# Altium schematic symbol library converter.SchLib: 61 symbols (part 1 of 3)
Pins are listed as number, name and electrical type; pins without a type are passive.

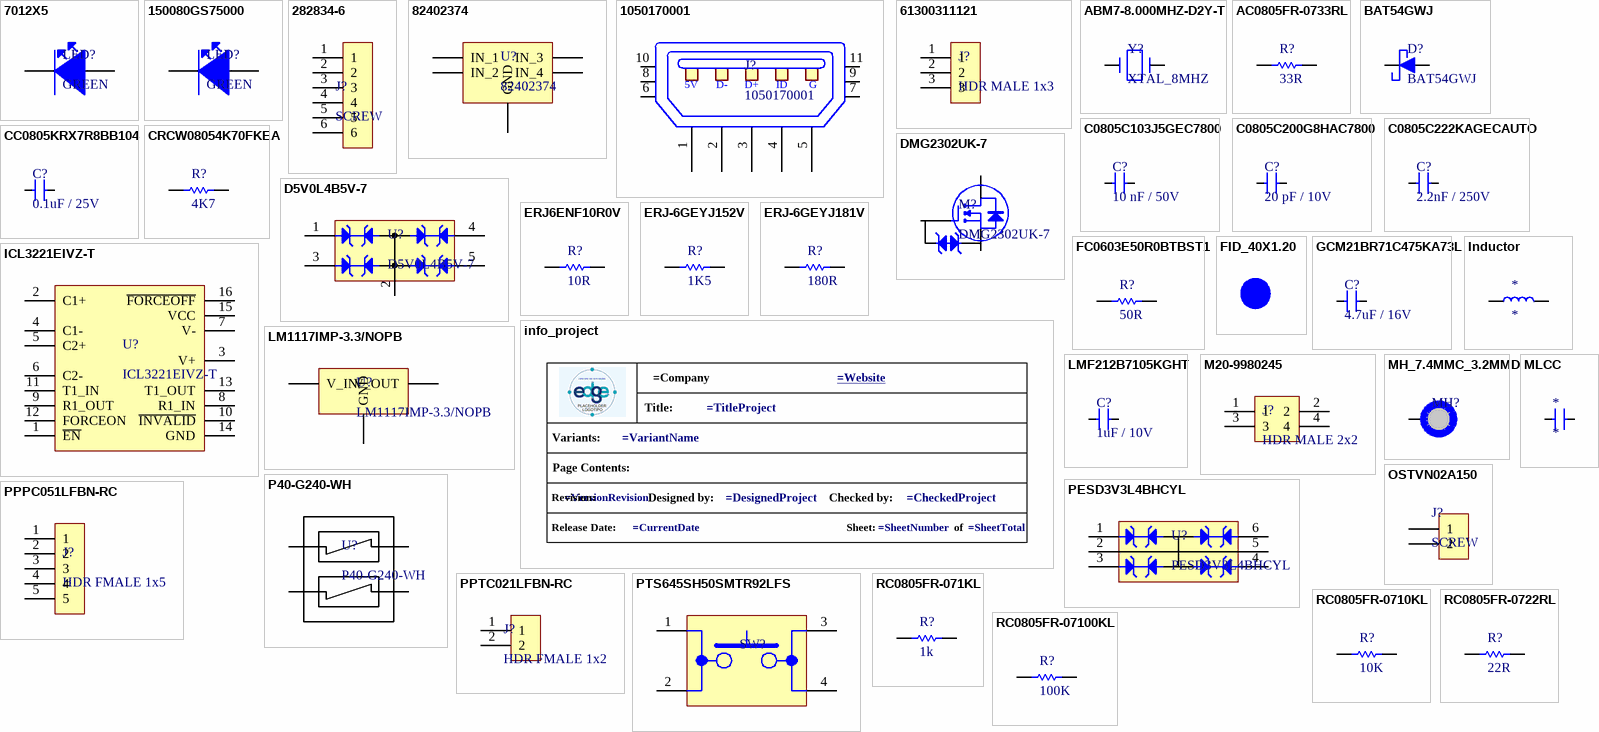
[diagram p0: symbols 7012X5 to RC0805FR-07100KL]

## 7012X5
designator LED?, comment GREEN
SMD LED GREEN 2.1V 0805 20mA; Manufacturer: VCC CHML; Manufacturer Part Number: 7012X5; Lens Color: Clear; Lens Style: Diffused,Rectangular; Luminous Intensity: 6.4mcd; Viewing Angle: 120°; Wavelength: 560nm; Power Rating: 62.5mW; Number of Elements: 1; Reverse Voltage (DC): 4V; Supplier 1: Digi-Key; RoHS: Yes; Category: LEDs; Stock 1: 153089; Pricing 1: 1=0,60000, 10=0,39600, 100=0,26210, 1000=0,20235, 2000=0,18285 (USD); Mount: Surface Mount; Case/Package: 0805; Number of Pins: 2; Color: Green; Case Code (Metric): 2012; Case Code (Imperial): 0805; Min Operating Temperature: -40°C; Max Operating Temperature: 85°C; Packaging: Tape and Reel; Forward Voltage: 2.1V; Package Quantity: 1; Illumination Color: Green; Forward Current: 20mA; Test Current: 20mA; Power Dissipation: 62.5mW; Reverse Voltage: 4V; Series: BrightChips™; Number of LEDs: 1; Length: 2mm; Width: 1.25mm; Height: 1mm; Depth: 1.25mm; Lead Free: Lead Free; RoHS Compliant: Yes; REACH SVHC: Unknown; ComponentLink1URL: https://datasheet.ciiva.com/2114/1-26-2114592.pdf?src-supplier=Digi-Key; ComponentLink1Description: https://datasheet.ciiva.com/2114/1-26-2114592.pdf?src-supplier=Digi-Key; ComponentLink2URL: https://datasheet.ciiva.com/7639/726505-7639302.pdf?src-supplier=Element14; ComponentLink2Description: https://datasheet.ciiva.com/7639/726505-7639302.pdf?src-supplier=Element14; ComponentLink3URL: https://datasheet.ciiva.com/46391/726505-46391115.pdf?src-supplier=Element14; ComponentLink3Description: https://datasheet.ciiva.com/46391/726505-46391115.pdf?src-supplier=Element14; ComponentLink4URL: https://datasheet.ciiva.com/16214/7012xseriesbrightchipshighbrightnesssmtleds0805packagesize-16214285.pdf?src-supplier=Future+Electronics; ComponentLink4Description: https://datasheet.ciiva.com/16214/7012xseriesbrightchipshighbrightnesssmtleds0805packagesize-16214285.pdf?src-supplier=Future+Electronics; Supplier Part Number 1: L61105CT-ND
footprint LED_0805
pins: 1 Cathode, 2 Anode

## 150080GS75000
designator LED?, comment GREEN
SMD LED GREEN 3.2V 0805 20mA; Manufacturer: Wurth Electronics; Manufacturer Part Number: 150080GS75000; Viewing Angle: 140°; Lens Style: Clear,Rectangular; Luminous Intensity: 450mcd; Wavelength: 520nm; Forward Current: 30mA; Supplier 1: Digi-Key; RoHS: Yes; Category: LEDs; Stock 1: 102669; Pricing 1: 1=0,18000, 50=0,16500, 100=0,14200, 500=0,12300 (USD); Mount: Surface Mount; Case/Package: 0805; Color: Green; Case Code (Metric): 2012; Case Code (Imperial): 0805; Min Operating Temperature: -40°C; Max Operating Temperature: 85°C; Package Quantity: 4000; Forward Voltage: 3.2V; Packaging: Cut Tape; Dominant Wavelength: 520nm; Test Current: 20mA; Length: 2mm; Width: 1.25mm; Height: 0.7mm; REACH SVHC: Unknown; RoHS Compliant: Yes; ComponentLink1URL: https://datasheet.ciiva.com/29563/150080gs75000-29563008.pdf?src-supplier=Digi-Key; ComponentLink1Description: https://datasheet.ciiva.com/29563/150080gs75000-29563008.pdf?src-supplier=Digi-Key; ComponentLink2URL: https://datasheet.ciiva.com/29279/759434-da-01-en-chipled-0805-w-kl-gruen-150080gs75000-29279039.pdf?src-supplier=Conrad; ComponentLink2Description: https://datasheet.ciiva.com/29279/759434-da-01-en-chipled-0805-w-kl-gruen-150080gs75000-29279039.pdf?src-supplier=Conrad; Supplier Part Number 1: 732-4983-1-ND
footprint LED_0805
pins: 1 Cathode, 2 Anode

## 282834-6
designator J?, comment SCREW
TERM BLK 6P SIDE 2.54MM; Manufacturer: TE Connectivity; Manufacturer Part Number: 282834-6; Plating: Brass,Steel; Number of Contacts: 6; Current Rating: 10A; Voltage Rating: 150V; Number of Levels: 1; Connector Type: Receptacle; Closed End: No (Without); Screwless Terminal Block: Yes (With); Gender: Female; Wire Gauge (Max): 30AWG; Wire Gauge (Min): 16AWG; Thread Size: M1.6; Tail Length: 3.4mm; Approvals: UL; Supplier 1: Digi-Key; RoHS: Yes; Category: Terminal Blocks; Stock 1: 7269; Pricing 1: 1=5,33000, 10=4,06500, 25=3,80720, 50=3,38400, 100=3,31050, 250=3,05300, 500=2,75874, 1000=2,45221 (USD); Mount: Through Hole; Color: Green; Contact Plating: Tin; Contact Material: Brass; Housing Color: Green; Housing Material: Polyamide; Material: Nylon; Min Operating Temperature: -40°C; Max Operating Temperature: 105°C; Termination: Solder; Orientation: Straight; Package Quantity: 100; Packaging: Box; Number of Rows: 1; Series: Buchanan; Number of Positions Per Level: 6; Current: 10A; Voltage: 150V; Number of Positions: 6; Number of Circuits: 6; Max Current Rating: 10A; Interlock: No (Without); Screw Flange: No (Without); Side Stackable: Yes (With); Max Supply Voltage (AC): 150V; Number of Poles: 6; Max Voltage Rating (AC): 150V; Length: 15.7mm; Width: 6.5mm; Pitch: 2.54mm; Depth: 6.5mm; Wire/Cable Gauge: 30AWG; Radiation Hardening: No; Flammability Rating: UL94 V-0; ELV: Compliant; REACH SVHC: Unknown; Lead Free: Lead Free; ComponentLink1URL: https://datasheet.ciiva.com/823/eng-cd-282834-c1-823488.pdf?src-supplier=Digi-Key; ComponentLink1Description: https://datasheet.ciiva.com/823/eng-cd-282834-c1-823488.pdf?src-supplier=Digi-Key; ComponentLink2URL: https://datasheet.ciiva.com/16308/282834-6-16308413.pdf?src-supplier=Future+Electronics; ComponentLink2Description: https://datasheet.ciiva.com/16308/282834-6-16308413.pdf?src-supplier=Future+Electronics; ComponentLink3URL: https://datasheet.ciiva.com/25618/0900766b810c7187-25618156.pdf?src-supplier=RSComponents; ComponentLink3Description: https://datasheet.ciiva.com/25618/0900766b810c7187-25618156.pdf?src-supplier=RSComponents; ComponentLink4URL: https://datasheet.ciiva.com/9370/eng-cs-1308389-eurostyle-terminal-blocks-0607-9370422.pdf?src-supplier=Avnet; ComponentLink4Description: https://datasheet.ciiva.com/9370/eng-cs-1308389-eurostyle-terminal-blocks-0607-9370422.pdf?src-supplier=Avnet; ComponentLink5URL: https://datasheet.ciiva.com/16676/eng-cs-1308389-eurostyle-terminal-blocks-0607-16676062.pdf?src-supplier=Avnet+Europe; ComponentLink5Description: https://datasheet.ciiva.com/16676/eng-cs-1308389-eurostyle-terminal-blocks-0607-16676062.pdf?src-supplier=Avnet+Europe; ComponentLink6URL: https://datasheet.ciiva.com/30097/eng-cs-1308389-eurostyle-terminal-blocks-0607-30097352.pdf?src-supplier=Onlinecomponents.com; ComponentLink6Description: https://datasheet.ciiva.com/30097/eng-cs-1308389-eurostyle-terminal-blocks-0607-30097352.pdf?src-supplier=Onlinecomponents.com; Supplier Part Number 1: A98337-ND
footprint SCREW-6P
pins: 1, 2, 3, 4, 5, 6

## 82402374
designator U?
DIODE TVS ESD VRW - 5V / VB - 6V / VC - 6.8V; Manufacturer: Wurth Electronics; Direction: Unidirectional; Element Configuration: Common Anode; Capacitance: 13pF; Number of Unidirectional Channels: 4; Power Line Protection: No; Max Reverse Leakage Current: 2.5A; ESD Protection: Yes; Test Current: 1mA; Max Surge Current: 6A; Diode Type: ZENER; Supplier 1: Digi-Key; Manufacturer Part Number: 82402374; RoHS: Yes; Category: Diodes; Stock 1: 2064; Pricing 1: 1=0,81000, 10=0,77300, 50=0,72100, 100=0,67000, 500=0,59200 (USD); Mount: Surface Mount; Case/Package: SC; Number of Pins: 5; Min Operating Temperature: -55°C; Max Operating Temperature: 85°C; Package Quantity: 3000; Packaging: Tape and Reel; Polarity: Unidirectional; Reverse Standoff Voltage: 5V; Min Breakdown Voltage: 6V; Clamping Voltage: 6.8V; Max Breakdown Voltage: 6V; Breakdown Voltage: 6V; Termination: SMD/SMT; Number of Channels: 4; Working Voltage: 5V; Peak Pulse Current: 6A; Resistor Type: Zener; Series: WE-TVS; Length: 2mm; Width: 2.2mm; Height: 1mm; REACH SVHC: No SVHC; RoHS Compliant: Yes; ComponentLink1URL: https://datasheet.ciiva.com/1280/82402374-1280754.pdf?src-supplier=Farnell; ComponentLink1Description: https://datasheet.ciiva.com/1280/82402374-1280754.pdf?src-supplier=Farnell; ComponentLink2URL: https://datasheet.ciiva.com/15063/82402374-15063940.pdf?src-supplier=Digi-Key; ComponentLink2Description: https://datasheet.ciiva.com/15063/82402374-15063940.pdf?src-supplier=Digi-Key; ComponentLink3URL: https://datasheet.ciiva.com/25624/0900766b8107ea50-25624773.pdf?src-supplier=RSComponents; ComponentLink3Description: https://datasheet.ciiva.com/25624/0900766b8107ea50-25624773.pdf?src-supplier=RSComponents; ComponentLink4URL: https://datasheet.ciiva.com/15063/82402374-15063941.pdf?src-supplier=Digi-Key; ComponentLink4Description: https://datasheet.ciiva.com/15063/82402374-15063941.pdf?src-supplier=Digi-Key; ComponentLink5URL: https://datasheet.ciiva.com/15063/82402374-15063942.pdf?src-supplier=Digi-Key; ComponentLink5Description: https://datasheet.ciiva.com/15063/82402374-15063942.pdf?src-supplier=Digi-Key; ComponentLink6URL: https://datasheet.ciiva.com/26308/82402374-eng-tds-26308054.pdf?src-supplier=Distrelec; ComponentLink6Description: https://datasheet.ciiva.com/26308/82402374-eng-tds-26308054.pdf?src-supplier=Distrelec; ComponentLink7URL: https://datasheet.ciiva.com/48698/001086807-da-01-ml-tvs-diode-array-we-tvs-82402374-de-en-48698251.pdf?src-supplier=Conrad; ComponentLink7Description: https://datasheet.ciiva.com/48698/001086807-da-01-ml-tvs-diode-array-we-tvs-82402374-de-en-48698251.pdf?src-supplier=Conrad; Supplier Part Number 1: 732-4478-1-ND
footprint 82402374
pins: 1 IN_1, 2 GND, 3 IN_3, 4 IN_2, 5 IN_4

## 1050170001
designator J?
CONN USB RECPT MICRO B 2.0; Manufacturer: Molex; Number of Terminals/Pins: 5; Gender: Receptacle; Connector Type: USB,Receptacle; Number of Ports: 1; Max Voltage Rating (AC): 30V; Current Rating: 1.8A; USB Standard: USB 2.0; Mating Cycles: 10000; Shielding: Shielded; Pitch: 0.65mm; Supplier 1: Digi-Key; Manufacturer Part Number: 1050170001; RoHS: Yes; Category: Connectors; Stock 1: 92634; Pricing 1: 1=0,83000, 10=0,68600, 100=0,57140, 1000=0,45712 (USD); Mount: Surface Mount,Through Hole,Horizontal; Contact Plating: Gold; Contact Material: Copper Alloy,Copper; Housing Material: Polymer; Insulation Color: Black; Min Operating Temperature: -30°C; Max Operating Temperature: 85°C; Packaging: Tape and Reel; Package Quantity: 2000; Termination: Solder; Number of Contacts: 5; Orientation: Right Angle; Features: Shielded; Series: 105017; Voltage Rating (AC): 30V; Voltage Rating: 30V; Number of Positions: 5; Number of Circuits: 5; Length: 8.2mm; Depth: 7.5mm; Radiation Hardening: No; REACH SVHC: Unknown; Halogen Free: Low Halogen; Flammability Rating: UL94 V-0; RoHS Compliant: Yes; ComponentLink1URL: https://datasheet.ciiva.com/3094/1050170001-io-connectors-3094416.pdf?src-supplier=Avnet; ComponentLink1Description: https://datasheet.ciiva.com/3094/1050170001-io-connectors-3094416.pdf?src-supplier=Avnet; ComponentLink2URL: https://datasheet.ciiva.com/30165/235271050170001-io-nectors-30165183.pdf?src-supplier=Onlinecomponents.com; ComponentLink2Description: https://datasheet.ciiva.com/30165/235271050170001-io-nectors-30165183.pdf?src-supplier=Onlinecomponents.com; ComponentLink3URL: https://datasheet.ciiva.com/5742/1598502-5742508.pdf?src-supplier=Farnell; ComponentLink3Description: https://datasheet.ciiva.com/5742/1598502-5742508.pdf?src-supplier=Farnell; ComponentLink4URL: https://datasheet.ciiva.com/8015/1631959-8015288.pdf?src-supplier=Element14; ComponentLink4Description: https://datasheet.ciiva.com/8015/1631959-8015288.pdf?src-supplier=Element14; ComponentLink5URL: https://datasheet.ciiva.com/22654/1688140-22654924.pdf?src-supplier=Element14; ComponentLink5Description: https://datasheet.ciiva.com/22654/1688140-22654924.pdf?src-supplier=Element14; ComponentLink6URL: https://datasheet.ciiva.com/4598/1050170001-io-connectors-152207-4598759.pdf?src-supplier=Mouser; ComponentLink6Description: https://datasheet.ciiva.com/4598/1050170001-io-connectors-152207-4598759.pdf?src-supplier=Mouser; ComponentLink7URL: https://datasheet.ciiva.com/851/1050170001-sd-851276.pdf?src-supplier=Digi-Key; ComponentLink7Description: https://datasheet.ciiva.com/851/1050170001-sd-851276.pdf?src-supplier=Digi-Key; ComponentLink8URL: https://datasheet.ciiva.com/851/1050170001-sd-851277.pdf?src-supplier=Digi-Key; ComponentLink8Description: https://datasheet.ciiva.com/851/1050170001-sd-851277.pdf?src-supplier=Digi-Key; ComponentLink9URL: https://datasheet.ciiva.com/16668/1050170001-io-connectors-16668598.pdf?src-supplier=Avnet+Europe; ComponentLink9Description: https://datasheet.ciiva.com/16668/1050170001-io-connectors-16668598.pdf?src-supplier=Avnet+Europe; ComponentLink10URL: https://datasheet.ciiva.com/851/1050170001-sd-851278.pdf?src-supplier=Digi-Key; ComponentLink10Description: https://datasheet.ciiva.com/851/1050170001-sd-851278.pdf?src-supplier=Digi-Key; Supplier Part Number 1: WM1399CT-ND
footprint 1050170001
pins: 1 0, 2 1, 3 2, 4 3, 5 4, 6 5, 7, 8, 9, 10, 11
text: 5V; D-; D+; ID; G

## 61300311121
designator J?, comment HDR MALE 1x3
HDR MALE 1x3 100mil; Manufacturer: Wurth Electronics; Manufacturer Part Number: 61300311121; Number of Positions: 3; Connector Type: Male Pin; Pitch: 0.1inch; Supplier 1: Digi-Key; RoHS: Yes; Category: Connectors; Stock 1: 73782; Pricing 1: 1=0,13000, 10=0,10600, 25=0,08800, 50=0,07400, 100=0,06700, 1000=0,06240 (USD); Mount: Through Hole; Contact Plating: Gold; Contact Material: Copper; Color: Black; Number of Rows: 1; Packaging: Bulk; Termination: Solder; Number of Contacts: 3; Gender: Male; Contact Mating Length: 0.236inch; REACH SVHC: Unknown; Lead Free: Lead Free; RoHS Compliant: Yes; ComponentLink1URL: https://katalog.we-online.de/em/datasheet/6130xx11121.pdf?src-supplier=Digi-Key; ComponentLink1Description: https://katalog.we-online.de/em/datasheet/6130xx11121.pdf?src-supplier=Digi-Key; ComponentLink2URL: http://www.farnell.com/cad/1737268.pdf?src-supplier=Element14; ComponentLink2Description: http://www.farnell.com/cad/1737268.pdf?src-supplier=Element14; Supplier Part Number 1: 732-5316-ND
footprint HDR MALE 1x3
pins: 1, 2, 3

## ABM7-8.000MHZ-D2Y-T
designator Y?, comment XTAL_8MHZ
ABM7- 8MHZ - SMD - 6mm x 3.5mm - 30 ppm - 18 pF - 20 ppm; Manufacturer: Abracon; Manufacturer Part Number: ABM7-8.000MHZ-D2Y-T; Frequency Tolerance: 20ppm; Load Capacitance: 18pF; ESR (Equivalent Series Resistance): 100R; Frequency Stability: 30ppm; Series Resistance: 80R; .SCHChecked: José Gomes; Supplier 1: Digi-Key; RoHS: Yes; Category: Crystals; Stock 1: 54566; Pricing 1: 1=0.87000, 10=0.77300, 50=0.72240, 100=0.63840, 500=0.60480 (USD); Mount: Surface Mount; Case/Package: CSMD; Number of Pins: 2; Min Operating Temperature: -40°C; Max Operating Temperature: 85°C; Frequency: 8MHz; Package Quantity: 1000; Packaging: Tape and Reel; Tolerance: 20ppm; Termination: SMD/SMT; Resistor Type: Ceramic; Series: ABM7; Operating Frequency: 8 MHz; Length: 6mm; Width: 0.138inch; Height: 0.055inch; Depth: 3.5mm; Radiation Hardening: No; REACH SVHC: Yes; Lead Free: Lead Free; ComponentLink1URL: https://datasheet.ciiva.com/15116/getdatasheetpartid-722403-15116844.pdf?src-supplier=Verical; ComponentLink1Description: https://datasheet.ciiva.com/15116/getdatasheetpartid-722403-15116844.pdf?src-supplier=Verical; ComponentLink2URL: https://datasheet.ciiva.com/1357/1718755-1357277.pdf?src-supplier=Element14; ComponentLink2Description: https://datasheet.ciiva.com/1357/1718755-1357277.pdf?src-supplier=Element14; ComponentLink3URL: https://datasheet.ciiva.com/29998/abm7-29998171.pdf?src-supplier=Avnet; ComponentLink3Description: https://datasheet.ciiva.com/29998/abm7-29998171.pdf?src-supplier=Avnet; ComponentLink4URL: https://datasheet.ciiva.com/4944/abm7-19096-4944987.pdf?src-supplier=Mouser; ComponentLink4Description: https://datasheet.ciiva.com/4944/abm7-19096-4944987.pdf?src-supplier=Mouser; ComponentLink5URL: https://datasheet.ciiva.com/16416/abm7-16416924.pdf?src-supplier=Future+Electronics; ComponentLink5Description: https://datasheet.ciiva.com/16416/abm7-16416924.pdf?src-supplier=Future+Electronics; Supplier Part Number 1: 535-9831-1-ND; .PCBChecked: José Gomes
footprint ABM7-8.000MHZ-D2Y-T
pins: 1, 2

## AC0805FR-0733RL
designator R?, comment 33R
RES - 33R 1/8W 0805 1%; Manufacturer: Yageo; Manufacturer Part Number: AC0805FR-0733RL; Power Rating: 125mW; Voltage Rating: 150V; Temperature Coefficient: 100ppm/°C; Supplier 1: Digi-Key; RoHS: Yes; Category: Chip SMD Resistors; Stock 1: 4670; Pricing 1: 1=0.10000, 10=0.05000, 100=0.02040, 1000=0.00917, 2500=0.00796 (USD); Case/Package: 0805; Case Code (Imperial): 0805; Case Code (Metric): 2012; Min Operating Temperature: -55°C; Max Operating Temperature: 155°C; Packaging: Tape and Reel; Resistance: 33R; Tolerance: 1%; Resistor Type: Thick Film; Number of Terminations: 2; Termination: SMD/SMT; Max Power Dissipation: 125mW; Features: Moisture Resistant,Automotive AEC-Q200; Series: AC; Length: 0.079inch; Width: 0.049inch; Height: 0.024inch; RoHS Compliant: Yes; ComponentLink1URL: http://www.mouser.com/ds/2/447/yageodocoutput-1111992.pdf?src-supplier=Mouser; ComponentLink1Description: http://www.mouser.com/ds/2/447/yageodocoutput-1111992.pdf?src-supplier=Mouser; ComponentLink2URL: http://www.yageo.com/NewPortal/yageodocoutput?fileName=/pdf/R-Chip/PYu-AC_51_RoHS_L_6.pdf&src-supplier=Digi-Key; ComponentLink2Description: http://www.yageo.com/NewPortal/yageodocoutput?fileName=/pdf/R-Chip/PYu-AC_51_RoHS_L_6.pdf&src-supplier=Digi-Key; ComponentLink3URL: http://www.yageo.com/NewPortal/yageodocoutput?fileName=/pdf/R-Chip/PYu-AC_51_RoHS_L_5.pdf&src-supplier=Digi-Key; ComponentLink3Description: http://www.yageo.com/NewPortal/yageodocoutput?fileName=/pdf/R-Chip/PYu-AC_51_RoHS_L_5.pdf&src-supplier=Digi-Key; Supplier Part Number 1: YAG5367CT-ND
footprint R0805
pins: 1, 2

## BAT54GWJ
designator D?
DIODE SCHOTTKY 30 V - 200 mA SOD123; Manufacturer: Nexperia USA; Max Reverse Voltage (DC): 30V; Average Rectified Current: 200mA; Supplier 1: Newark; Manufacturer Part Number: BAT54GWJ; RoHS: No; Mount: Surface Mount; Min Operating Temperature: -40°C; Max Operating Temperature: 85°C; Packaging: Cut Tape; ComponentLink1URL: https://assets.nexperia.com/documents/data-sheet/BAT54GW.pdf?src-supplier=Digi-Key; ComponentLink1Description: https://assets.nexperia.com/documents/data-sheet/BAT54GW.pdf?src-supplier=Digi-Key; Supplier Part Number 1: 73AH9681
footprint SOD123
pins: 1, 2

## C0805C103J5GEC7800
designator C?, comment 10 nF / 50V
MLCC - 10nF 50V 0805 C0G +/- 5%; Manufacturer: KEMET; Manufacturer Part Number: C0805C103J5GEC7800; Supplier 1: Digi-Key; RoHS: No; Stock 1: 1119; Pricing 1: 1=0.31000, 10=0.21500, 50=0.14300, 100=0.12160, 500=0.08584, 1000=0.07511 (USD); Supplier Part Number 1: 399-C0805C103J5GEC7800CT-ND
footprint C0805
pins: 1, 2

## C0805C200G8HAC7800
designator C?, comment 20 pF / 10V
MLCC - 20pF 10V 0805 X8R +/- 2%; Manufacturer: KEMET; Manufacturer Part Number: C0805C200G8HAC7800; Supplier 1: Digi-Key; RoHS: No; Stock 1: 11310; Pricing 1: 1=0,18000, 10=0,12800, 50=0,07240, 100=0,06000, 500=0,04208, 1000=0,03484 (USD); Supplier Part Number 1: 399-C0805C200G8HAC7800CT-ND
footprint C0805
pins: 1, 2

## C0805C222KAGECAUTO
designator C?, comment 2.2nF / 250V
MLCC - 2.2 nF 250V 0805  C0G +/- 10%; Manufacturer: KEMET; Manufacturer Part Number: C0805C222KAGECAUTO; Supplier 1: Digi-Key; RoHS: Yes; Category: Ceramic Capacitors; Stock 1: 14146; Pricing 1: 1=0,26000, 10=0,17800, 50=0,11880, 100=0,10100, 500=0,07128, 1000=0,06237 (USD); RoHS Compliant: Yes; ComponentLink1URL: https://api.kemet.com/component-edge/download/datasheet/C0805C222KAGECAUTO.pdf?src-supplier=Digi-Key; ComponentLink1Description: https://api.kemet.com/component-edge/download/datasheet/C0805C222KAGECAUTO.pdf?src-supplier=Digi-Key; Supplier Part Number 1: 399-17905-1-ND
footprint C0805
pins: 1, 2

## CC0805KRX7R8BB104
designator C?, comment 0.1uF / 25V
MLCC - 0.1uF 25V 0805 X7R +/- 10%; Manufacturer: Yageo; Manufacturer Part Number: CC0805KRX7R8BB104; Material: Ceramic; Capacitance: 100nF; Insulation Resistance: 100GR; Supplier 1: Digi-Key; RoHS: Yes; Category: Ceramic Capacitors; Stock 1: 331734; Pricing 1: 1=0,12000, 10=0,08800, 50=0,04980, 100=0,04130, 500=0,02894, 1000=0,02396 (USD); Mount: Surface Mount; Case/Package: 0805; Number of Pins: 2; Case Code (Metric): 2012; Case Code (Imperial): 0805; Min Operating Temperature: -55°C; Max Operating Temperature: 125°C; Tolerance: 10%; Dielectric: X7R; Series: CC; Package Quantity: 1; Voltage Rating: 25V; Packaging: Tape and Reel; Voltage Rating (DC): 25V; Termination: SMD/SMT; Resistor Type: Ceramic; Length: 2mm; Width: 0.049inch; Height: 0.85mm; Depth: 1.25mm; Thickness: 0.033inch; Radiation Hardening: No; RoHS Compliant: Yes; REACH SVHC: No SVHC; Lead Free: Lead Free; Halogen Free: Halogen Free; ComponentLink1URL: https://datasheet.ciiva.com/145/mlccorderingcode-145007.pdf?src-supplier=Digi-Key; ComponentLink1Description: https://datasheet.ciiva.com/145/mlccorderingcode-145007.pdf?src-supplier=Digi-Key; ComponentLink2URL: https://datasheet.ciiva.com/145/mlccorderingcode-145008.pdf?src-supplier=Digi-Key; ComponentLink2Description: https://datasheet.ciiva.com/145/mlccorderingcode-145008.pdf?src-supplier=Digi-Key; ComponentLink3URL: https://datasheet.ciiva.com/145/mlccorderingcode-145009.pdf?src-supplier=Digi-Key; ComponentLink3Description: https://datasheet.ciiva.com/145/mlccorderingcode-145009.pdf?src-supplier=Digi-Key; ComponentLink4URL: https://datasheet.ciiva.com/8034/1784427-8034029.pdf?src-supplier=Element14; ComponentLink4Description: https://datasheet.ciiva.com/8034/1784427-8034029.pdf?src-supplier=Element14; ComponentLink5URL: https://datasheet.ciiva.com/8034/1784427-8034030.pdf?src-supplier=Element14; ComponentLink5Description: https://datasheet.ciiva.com/8034/1784427-8034030.pdf?src-supplier=Element14; ComponentLink6URL: https://datasheet.ciiva.com/8034/70765-8034031.pdf?src-supplier=Element14; ComponentLink6Description: https://datasheet.ciiva.com/8034/70765-8034031.pdf?src-supplier=Element14; ComponentLink7URL: https://datasheet.ciiva.com/46430/1850775-46430166.pdf?src-supplier=Element14; ComponentLink7Description: https://datasheet.ciiva.com/46430/1850775-46430166.pdf?src-supplier=Element14; ComponentLink8URL: https://datasheet.ciiva.com/28450/1489800-28450789.pdf?src-supplier=Element14; ComponentLink8Description: https://datasheet.ciiva.com/28450/1489800-28450789.pdf?src-supplier=Element14; ComponentLink9URL: https://datasheet.ciiva.com/15189/getdatasheetpartid-330244-15189223.pdf?src-supplier=Verical; ComponentLink9Description: https://datasheet.ciiva.com/15189/getdatasheetpartid-330244-15189223.pdf?src-supplier=Verical; ComponentLink10URL: https://datasheet.ciiva.com/16625/upy-gphc-x7r-6-3v-to-50v-8-16625546.pdf?src-supplier=Avnet+Europe; ComponentLink10Description: https://datasheet.ciiva.com/16625/upy-gphc-x7r-6-3v-to-50v-8-16625546.pdf?src-supplier=Avnet+Europe; Supplier Part Number 1: 311-1141-1-ND
footprint C0805
pins: 1, 2

## CRCW08054K70FKEA
designator R?, comment 4K7
RES - 4.7K 1/8W 0805 1%; Manufacturer: Vishay; Manufacturer Part Number: CRCW08054K70FKEA; Resistance: 4.7kR; Power Rating: 125mW; Temperature Coefficient: 100ppm/°C; Voltage Rating: 150V; Supplier 1: RSComponents; RoHS: Yes; Category: Chip SMD Resistors; Stock 1: 1; Pricing 1: 50=0.07500, 250=0.06800, 500=0.05500, 750=0.04400, 1000=0.03700 (USD); Case/Package: 0805; Contact Plating: Tin; Weight: 0.000194oz; Case Code (Imperial): 0805; Case Code (Metric): 2012; Size Code: 0805; Min Operating Temperature: -55°C; Max Operating Temperature: 155°C; Tolerance: 1%; Resistor Type: Thick Film; Termination: SMD/SMT; Packaging: Tape and Reel; Package Quantity: 10; Number of Terminations: 2; Max Power Dissipation: 125mW; Voltage Rating (DC): 150V; Features: Automotive AEC-Q200; Series: CRCW; Resistance Tolerance: 1%; Technology: THICK FILM; Construction: Rectangular; Length: 2mm; Width: 1.25mm; Height: 0.45mm; Depth: 1.25mm; Radiation Hardening: No; Lead Free: Lead Free; RoHS Compliant: Yes; REACH SVHC: Unknown; Military Standard: Not; ComponentLink1URL: https://datasheet.ciiva.com/11808/0900766b80d98b26-11808992.pdf?src-supplier=RSComponents; ComponentLink1Description: https://datasheet.ciiva.com/11808/0900766b80d98b26-11808992.pdf?src-supplier=RSComponents; ComponentLink2URL: https://datasheet.ciiva.com/2467/dcrcwe3-2467437.pdf?src-supplier=Digi-Key; ComponentLink2Description: https://datasheet.ciiva.com/2467/dcrcwe3-2467437.pdf?src-supplier=Digi-Key; ComponentLink3URL: https://datasheet.ciiva.com/2467/dcrcwe3-2467438.pdf?src-supplier=Digi-Key; ComponentLink3Description: https://datasheet.ciiva.com/2467/dcrcwe3-2467438.pdf?src-supplier=Digi-Key; ComponentLink4URL: https://datasheet.ciiva.com/2467/dcrcwe3-2467439.pdf?src-supplier=Digi-Key; ComponentLink4Description: https://datasheet.ciiva.com/2467/dcrcwe3-2467439.pdf?src-supplier=Digi-Key; ComponentLink5URL: https://datasheet.ciiva.com/5550/dcrcwe3-109170-5550903.pdf?src-supplier=Mouser; ComponentLink5Description: https://datasheet.ciiva.com/5550/dcrcwe3-109170-5550903.pdf?src-supplier=Mouser; ComponentLink6URL: https://datasheet.ciiva.com/9071/dcrcwe3-9071196.pdf?src-supplier=Avnet; ComponentLink6Description: https://datasheet.ciiva.com/9071/dcrcwe3-9071196.pdf?src-supplier=Avnet; ComponentLink7URL: https://datasheet.ciiva.com/26317/fld-crcw-e3-data-en-26317145.pdf?src-supplier=Distrelec; ComponentLink7Description: https://datasheet.ciiva.com/26317/fld-crcw-e3-data-en-26317145.pdf?src-supplier=Distrelec; ComponentLink8URL: https://datasheet.ciiva.com/16213/dcrcwe3-16213733.pdf?src-supplier=Future+Electronics; ComponentLink8Description: https://datasheet.ciiva.com/16213/dcrcwe3-16213733.pdf?src-supplier=Future+Electronics; ComponentLink9URL: https://datasheet.ciiva.com/16720/70201119-16720438.pdf?src-supplier=Allied+Electronics; ComponentLink9Description: https://datasheet.ciiva.com/16720/70201119-16720438.pdf?src-supplier=Allied+Electronics; Supplier Part Number 1: 6791496P
footprint R0805
pins: 1, 2

## D5V0L4B5V-7
designator U?
ESD TVS VRWM - 5V / VBR - 6-8V /; Manufacturer: Diodes; Direction: Bidirectional; Capacitance: 20pF; Max Surge Current: 6A; Number of Bidirectional Channels: 4; Min Breakdown Voltage: 6V; Clamping Voltage: 14V; Peak Pulse Power: 84W; Power Line Protection: No; Breakdown Voltage: 7V; Max Power Dissipation: 380mW; ESD Protection: Yes; Max Reverse Leakage Current: 100nA; Test Current: 1mA; Diode Type: ZENER; Supplier 1: Digi-Key; Manufacturer Part Number: D5V0L4B5V-7; RoHS: Yes; Category: TVS Diodes; Stock 1: 22216; Pricing 1: 1=0,51000, 10=0,38600, 100=0,24040, 500=0,16444, 1000=0,12650 (USD); Mount: Surface Mount; Case/Package: SOT-553; Number of Pins: 5; Contact Plating: Tin,Matte; Min Operating Temperature: -65°C; Max Operating Temperature: 150°C; Package Quantity: 3000; Packaging: Tape and Reel; Reverse Standoff Voltage: 5V; Number of Channels: 4; Polarity: Bidirectional; Termination: SMD/SMT; Working Voltage: 5V; Leakage Current: 100nA; Peak Pulse Current: 6A; Resistor Type: Zener; Series: -; Length: 1.6mm; Width: 1.25mm; Height: 0.6mm; Depth: 1.2mm; Radiation Hardening: No; Lead Free: Lead Free; REACH SVHC: No SVHC; RoHS Compliant: Yes; ComponentLink1URL: https://datasheet.ciiva.com/12326/d5v0l4b5v-218334-12326570.pdf?src-supplier=Mouser; ComponentLink1Description: https://datasheet.ciiva.com/12326/d5v0l4b5v-218334-12326570.pdf?src-supplier=Mouser; ComponentLink2URL: https://datasheet.ciiva.com/334/d5v0l4b5v-334001.pdf?src-supplier=Digi-Key; ComponentLink2Description: https://datasheet.ciiva.com/334/d5v0l4b5v-334001.pdf?src-supplier=Digi-Key; ComponentLink3URL: https://datasheet.ciiva.com/25624/0900766b8115c347-25624818.pdf?src-supplier=RSComponents; ComponentLink3Description: https://datasheet.ciiva.com/25624/0900766b8115c347-25624818.pdf?src-supplier=RSComponents; ComponentLink4URL: https://datasheet.ciiva.com/11193/d5v0l4b5v-11193845.pdf?src-supplier=Avnet; ComponentLink4Description: https://datasheet.ciiva.com/11193/d5v0l4b5v-11193845.pdf?src-supplier=Avnet; Supplier Part Number 1: D5V0L4B5V-7DICT-ND
footprint D5V0L4B5V-7
pins: 1, 2, 3, 4, 5

## DMG2302UK-7
designator M?
MOSFET N-CHANNEL 20 V, 2.8 A, 0.061 OHM, SOT-23; Manufacturer: Diodes; Drain to Source Voltage (Vdss): 20V; Continuous Drain Current (ID): 2.8A; Rds On Max: 90mR; Input Capacitance: 130pF; Max Power Dissipation: 660mW; Supplier 1: Digi-Key; Manufacturer Part Number: DMG2302UK-7; RoHS: Yes; Category: MOSFETs; Stock 1: 678413; Pricing 1: 1=0,37000, 10=0,27900, 100=0,15800, 500=0,10460, 1000=0,08020 (USD); Mount: Surface Mount; Case/Package: TO-236-3; Min Operating Temperature: -55°C; Max Operating Temperature: 150°C; Packaging: Tape and Reel; RoHS Compliant: Yes; ComponentLink1URL: http://www.farnell.com/datasheets/2814387.pdf?src-supplier=Farnell; ComponentLink1Description: http://www.farnell.com/datasheets/2814387.pdf?src-supplier=Farnell; ComponentLink2URL: https://www.diodes.com/assets/Datasheets/DMG2302UK.pdf?src-supplier=Digi-Key; ComponentLink2Description: https://www.diodes.com/assets/Datasheets/DMG2302UK.pdf?src-supplier=Digi-Key; ComponentLink3URL: http://www.farnell.com/datasheets/2814387.pdf?src-supplier=Element14; ComponentLink3Description: http://www.farnell.com/datasheets/2814387.pdf?src-supplier=Element14; ComponentLink4URL: http://www.farnell.com/datasheets/2814387.pdf?src-supplier=Newark; ComponentLink4Description: http://www.farnell.com/datasheets/2814387.pdf?src-supplier=Newark; Supplier Part Number 1: DMG2302UK-7DICT-ND
footprint SOT23
pins: 1 G, 2 S, 3 D

## ERJ6ENF10R0V
designator R?, comment 10R
RES - 10R 1/8W 0805 1%; Manufacturer: Panasonic; Manufacturer Part Number: ERJ6ENF10R0V; Temperature Coefficient: 100ppm/°C; Power Rating: 125mW; Voltage Rating: 150V; Supplier 1: Digi-Key; RoHS: Yes; Category: Chip SMD Resistors; Stock 1: 594501; Pricing 1: 1=0,10000, 10=0,07500, 100=0,02880, 1000=0,01265, 2500=0,01092 (USD); Mount: Surface Mount; Case/Package: 0805; Number of Pins: 2; Contact Plating: Tin; Case Code (Metric): 2012; Case Code (Imperial): 0805; Size Code: 0805; Min Operating Temperature: -55°C; Max Operating Temperature: 155°C; Resistance: 10R; Tolerance: 1%; Resistor Type: Thick Film; Packaging: Tape and Reel; Package Quantity: 5000; Number of Terminations: 2; Termination: SMD/SMT; Max Power Dissipation: 125mW; Voltage Rating (DC): 150V; Features: Automotive AEC-Q200; Series: ERJ; Resistance Tolerance: 1%; Technology: THICK FILM; Construction: Rectangular; Length: 2mm; Width: 0.049inch; Height: 0.6mm; Depth: 1.25mm; Radiation Hardening: No; REACH SVHC: No SVHC; Military Standard: Not; Lead Free: Lead Free; RoHS Compliant: Yes; ComponentLink1URL: https://datasheet.ciiva.com/34303/1989009-34303620.pdf?src-supplier=Jameco; ComponentLink1Description: https://datasheet.ciiva.com/34303/1989009-34303620.pdf?src-supplier=Jameco; ComponentLink2URL: https://datasheet.ciiva.com/46372/1678782-46372965.pdf?src-supplier=Element14; ComponentLink2Description: https://datasheet.ciiva.com/46372/1678782-46372965.pdf?src-supplier=Element14; ComponentLink3URL: https://datasheet.ciiva.com/46372/1678782-46372966.pdf?src-supplier=Element14; ComponentLink3Description: https://datasheet.ciiva.com/46372/1678782-46372966.pdf?src-supplier=Element14; ComponentLink4URL: https://datasheet.ciiva.com/24026/aoa0000ce2-24026310.pdf?src-supplier=Mouser; ComponentLink4Description: https://datasheet.ciiva.com/24026/aoa0000ce2-24026310.pdf?src-supplier=Mouser; ComponentLink5URL: https://datasheet.ciiva.com/16787/70260748-16787450.pdf?src-supplier=Allied+Electronics; ComponentLink5Description: https://datasheet.ciiva.com/16787/70260748-16787450.pdf?src-supplier=Allied+Electronics; ComponentLink6URL: https://datasheet.ciiva.com/9117/aoa0000ce2-9117399.pdf?src-supplier=Avnet; ComponentLink6Description: https://datasheet.ciiva.com/9117/aoa0000ce2-9117399.pdf?src-supplier=Avnet; ComponentLink7URL: https://datasheet.ciiva.com/16449/aoa0000ce2-16449373.pdf?src-supplier=Future+Electronics; ComponentLink7Description: https://datasheet.ciiva.com/16449/aoa0000ce2-16449373.pdf?src-supplier=Future+Electronics; ComponentLink8URL: https://datasheet.ciiva.com/48531/aoa0000ce2-48531879.pdf?src-supplier=Avnet; ComponentLink8Description: https://datasheet.ciiva.com/48531/aoa0000ce2-48531879.pdf?src-supplier=Avnet; Supplier Part Number 1: P10.0CCT-ND
footprint R0805
pins: 1, 2

## ERJ-6GEYJ152V
designator R?, comment 1K5
RES - 1.5K 1/8W 0805 5%; Manufacturer: Panasonic; Manufacturer Part Number: ERJ-6GEYJ152V; Resistance: 1.5kR; Temperature Coefficient: 200ppm/°C; Power Rating: 125mW; Voltage Rating: 150V; Supplier 1: Digi-Key; RoHS: Yes; Category: Chip SMD Resistors; Stock 1: 100295; Pricing 1: 1=0.10000, 10=0.05700, 100=0.02310, 1000=0.01036, 2500=0.00899 (USD); Mount: Surface Mount; Case/Package: 0805; Contact Plating: Tin; Case Code (Metric): 2012; Case Code (Imperial): 0805; Min Operating Temperature: -55°C; Max Operating Temperature: 155°C; Tolerance: 5%; Resistor Type: Thick Film; Packaging: Tape and Reel; Package Quantity: 5000; Number of Terminations: 2; Termination: SMD/SMT; Max Power Dissipation: 125mW; Voltage Rating (DC): 150V; Series: ERJ; Technology: THICK FILM; Construction: Rectangular; Resistance Tolerance: 5%; Length: 2mm; Width: 0.049inch; Height: 0.6mm; Depth: 1.25mm; Radiation Hardening: No; REACH SVHC: No SVHC; Military Standard: Not; Lead Free: Lead Free; RoHS Compliant: Yes; ComponentLink1URL: https://datasheet.ciiva.com/34303/1989691-34303649.pdf?src-supplier=Jameco; ComponentLink1Description: https://datasheet.ciiva.com/34303/1989691-34303649.pdf?src-supplier=Jameco; ComponentLink2URL: https://datasheet.ciiva.com/11821/0900766b80f806dd-11821558.pdf?src-supplier=RSComponents; ComponentLink2Description: https://datasheet.ciiva.com/11821/0900766b80f806dd-11821558.pdf?src-supplier=RSComponents; ComponentLink3URL: https://datasheet.ciiva.com/22758/1500035-22758236.pdf?src-supplier=Farnell; ComponentLink3Description: https://datasheet.ciiva.com/22758/1500035-22758236.pdf?src-supplier=Farnell; ComponentLink4URL: https://datasheet.ciiva.com/43460/1500035-43460111.pdf?src-supplier=Farnell; ComponentLink4Description: https://datasheet.ciiva.com/43460/1500035-43460111.pdf?src-supplier=Farnell; ComponentLink5URL: https://datasheet.ciiva.com/16513/aoa0000ce1-16513737.pdf?src-supplier=Avnet+Asia; ComponentLink5Description: https://datasheet.ciiva.com/16513/aoa0000ce1-16513737.pdf?src-supplier=Avnet+Asia; ComponentLink6URL: https://datasheet.ciiva.com/17214/aoa0000ce1-17214765.pdf?src-supplier=Avnet+Europe; ComponentLink6Description: https://datasheet.ciiva.com/17214/aoa0000ce1-17214765.pdf?src-supplier=Avnet+Europe; ComponentLink7URL: https://datasheet.ciiva.com/46380/1500035-46380938.pdf?src-supplier=Element14; ComponentLink7Description: https://datasheet.ciiva.com/46380/1500035-46380938.pdf?src-supplier=Element14; ComponentLink8URL: https://datasheet.ciiva.com/46389/1500035-46389822.pdf?src-supplier=Element14; ComponentLink8Description: https://datasheet.ciiva.com/46389/1500035-46389822.pdf?src-supplier=Element14; ComponentLink9URL: https://datasheet.ciiva.com/28514/1678796-28514239.pdf?src-supplier=Element14; ComponentLink9Description: https://datasheet.ciiva.com/28514/1678796-28514239.pdf?src-supplier=Element14; ComponentLink10URL: https://datasheet.ciiva.com/30181/4aoa0000ce1-30181306.pdf?src-supplier=Onlinecomponents.com; ComponentLink10Description: https://datasheet.ciiva.com/30181/4aoa0000ce1-30181306.pdf?src-supplier=Onlinecomponents.com; ComponentLink11URL: https://datasheet.ciiva.com/16768/70255313-16768838.pdf?src-supplier=Allied+Electronics; ComponentLink11Description: https://datasheet.ciiva.com/16768/70255313-16768838.pdf?src-supplier=Allied+Electronics; ComponentLink12URL: https://datasheet.ciiva.com/16764/70255313-16764710.pdf?src-supplier=Allied+Electronics; ComponentLink12Description: https://datasheet.ciiva.com/16764/70255313-16764710.pdf?src-supplier=Allied+Electronics; Supplier Part Number 1: P1.5KACT-ND
footprint R0805
pins: 1, 2

## ERJ-6GEYJ181V
designator R?, comment 180R
RES - 180R 1/8W 0805 5%; Manufacturer: Panasonic; Manufacturer Part Number: ERJ-6GEYJ181V; Temperature Coefficient: 200ppm/°C; Voltage Rating: 150V; Power Rating: 125mW; Supplier 1: Digi-Key; RoHS: Yes; Category: Chip SMD Resistors; Stock 1: 83932; Pricing 1: 1=0,10000, 10=0,06800, 100=0,02780, 1000=0,01246, 2500=0,01082 (USD); Mount: Surface Mount; Case/Package: 0805; Contact Plating: Tin; Case Code (Metric): 2012; Case Code (Imperial): 0805; Weight: 0.000194oz; Min Operating Temperature: -55°C; Max Operating Temperature: 155°C; Tolerance: 5%; Resistance: 180R; Resistor Type: Thick Film; Packaging: Tape and Reel; Package Quantity: 1; Number of Terminations: 2; Termination: SMD/SMT; Max Power Dissipation: 125mW; Voltage Rating (DC): 150V; Features: Automotive AEC-Q200; Series: ERJ; Construction: Rectangular; Resistance Tolerance: 5%; Technology: THICK FILM; Length: 2mm; Width: 0.049inch; Height: 0.6mm; Depth: 1.25mm; Radiation Hardening: No; REACH SVHC: No SVHC; Military Standard: Not; Lead Free: Lead Free; RoHS Compliant: Yes; ComponentLink1URL: https://datasheet.ciiva.com/11821/0900766b80f806dd-11821549.pdf?src-supplier=RSComponents; ComponentLink1Description: https://datasheet.ciiva.com/11821/0900766b80f806dd-11821549.pdf?src-supplier=RSComponents; ComponentLink2URL: https://datasheet.ciiva.com/46386/1500035-46386364.pdf?src-supplier=Element14; ComponentLink2Description: https://datasheet.ciiva.com/46386/1500035-46386364.pdf?src-supplier=Element14; ComponentLink3URL: https://datasheet.ciiva.com/5860/1500035-5860701.pdf?src-supplier=Farnell; ComponentLink3Description: https://datasheet.ciiva.com/5860/1500035-5860701.pdf?src-supplier=Farnell; ComponentLink4URL: https://datasheet.ciiva.com/46373/1500035-46373964.pdf?src-supplier=Element14; ComponentLink4Description: https://datasheet.ciiva.com/46373/1500035-46373964.pdf?src-supplier=Element14; ComponentLink5URL: https://datasheet.ciiva.com/28546/1678796-28546149.pdf?src-supplier=Element14; ComponentLink5Description: https://datasheet.ciiva.com/28546/1678796-28546149.pdf?src-supplier=Element14; ComponentLink6URL: https://datasheet.ciiva.com/24124/aoa0000ce1-37422-24124213.pdf?src-supplier=Mouser; ComponentLink6Description: https://datasheet.ciiva.com/24124/aoa0000ce1-37422-24124213.pdf?src-supplier=Mouser; ComponentLink7URL: https://datasheet.ciiva.com/16787/70255313-16787531.pdf?src-supplier=Allied+Electronics; ComponentLink7Description: https://datasheet.ciiva.com/16787/70255313-16787531.pdf?src-supplier=Allied+Electronics; ComponentLink8URL: https://datasheet.ciiva.com/16782/70255313-16782252.pdf?src-supplier=Allied+Electronics; ComponentLink8Description: https://datasheet.ciiva.com/16782/70255313-16782252.pdf?src-supplier=Allied+Electronics; ComponentLink9URL: https://datasheet.ciiva.com/9184/aoa0000ce1-9184891.pdf?src-supplier=Avnet; ComponentLink9Description: https://datasheet.ciiva.com/9184/aoa0000ce1-9184891.pdf?src-supplier=Avnet; ComponentLink10URL: https://datasheet.ciiva.com/30073/4aoa0000ce1-30073221.pdf?src-supplier=Onlinecomponents.com; ComponentLink10Description: https://datasheet.ciiva.com/30073/4aoa0000ce1-30073221.pdf?src-supplier=Onlinecomponents.com; ComponentLink11URL: https://datasheet.ciiva.com/17207/aoa0000ce1-17207135.pdf?src-supplier=Avnet+Europe; ComponentLink11Description: https://datasheet.ciiva.com/17207/aoa0000ce1-17207135.pdf?src-supplier=Avnet+Europe; Supplier Part Number 1: P180ACT-ND
footprint R0805
pins: 1, 2

## FC0603E50R0BTBST1
designator R?, comment 50R
RES - 50R 1/8W 0603 0.1%; Manufacturer: Vishay Dale Thin Film; Manufacturer Part Number: FC0603E50R0BTBST1; Power Rating: 125mW; Voltage Rating: 50V; Frequency: 20GHz; Temperature Coefficient: 25ppm/°C; Supplier 1: Digi-Key; RoHS: Yes; Category: Chip SMD Resistors; Stock 1: 11179; Pricing 1: 1=2,28000, 10=2,02100, 100=1,54350 (USD); Mount: Surface Mount; Case/Package: 0603; Number of Pins: 2; Case Code (Metric): 1608; Case Code (Imperial): 0603; Contact Plating: Tin,Lead,Copper,Silver; Min Operating Temperature: -55°C; Max Operating Temperature: 125°C; Packaging: Tape and Reel; Resistance: 50R; Tolerance: 0.1%; Package Quantity: 1; Termination: SMD/SMT; Resistor Type: Thin Film; Number of Terminations: 2; Max Power Dissipation: 125mW; Voltage Rating (DC): 50V; Series: FC; Resistance Tolerance: 0.1%; Construction: Rectangular; Length: 0.064inch; Width: 0.8mm; Height: 0.015inch; Depth: 0.81mm; Radiation Hardening: No; REACH SVHC: Unknown; Military Standard: Not; RoHS Compliant: Yes; ComponentLink1URL: https://datasheet.ciiva.com/6866/1749877-6866800.pdf?src-supplier=Newark; ComponentLink1Description: https://datasheet.ciiva.com/6866/1749877-6866800.pdf?src-supplier=Newark; ComponentLink2URL: https://datasheet.ciiva.com/2484/fcseries-2484694.pdf?src-supplier=Digi-Key; ComponentLink2Description: https://datasheet.ciiva.com/2484/fcseries-2484694.pdf?src-supplier=Digi-Key; ComponentLink3URL: https://datasheet.ciiva.com/2484/fcseries-2484695.pdf?src-supplier=Digi-Key; ComponentLink3Description: https://datasheet.ciiva.com/2484/fcseries-2484695.pdf?src-supplier=Digi-Key; ComponentLink4URL: https://datasheet.ciiva.com/2484/fcseries-2484696.pdf?src-supplier=Digi-Key; ComponentLink4Description: https://datasheet.ciiva.com/2484/fcseries-2484696.pdf?src-supplier=Digi-Key; Supplier Part Number 1: 764-FC0603E50R0BTBST1CT-ND
footprint R0603
pins: 1, 2

## FID_40X1.20
designator FID?  (value not drawn)  (no BOM)
Fiducials
footprint FID_40X1.20

## GCM21BR71C475KA73L
designator C?, comment 4.7uF / 16V
MLCC - 4.7uF 16V 0805 X7R +/- 10%; Manufacturer: Murata; Manufacturer Part Number: GCM21BR71C475KA73L; Supplier 1: Digi-Key; RoHS: Yes; Category: Ceramic Capacitors; Stock 1: 262759; Pricing 1: 1=0,37000, 10=0,25300, 50=0,16900, 100=0,14360, 500=0,10138, 1000=0,08870 (USD); Mount: Surface Mount; Case/Package: 0805; Case Code (Metric): 2012; Case Code (Imperial): 0805; Weight: 0.000335oz; Min Operating Temperature: -55°C; Max Operating Temperature: 125°C; Tolerance: 10%; Capacitance: 4.7uF; Dielectric: X7R; Voltage Rating: 16V; Packaging: Tape and Reel; Package Quantity: 1; Voltage: 16V; Termination: SMD/SMT; Voltage Rating (DC): 16V; Series: GCM; Construction: Flat; Length: 2mm; Width: 0.049inch; Height: 1.25mm; Thickness: 0.055inch; Depth: 1.25mm; Ratings: AEC-Q200; Radiation Hardening: No; REACH SVHC: No SVHC; Lead Free: Lead Free; RoHS Compliant: Yes; ComponentLink1URL: https://datasheet.ciiva.com/11613/product-11613410.pdf?src-supplier=Avnet; ComponentLink1Description: https://datasheet.ciiva.com/11613/product-11613410.pdf?src-supplier=Avnet; ComponentLink2URL: https://datasheet.ciiva.com/11787/0900766b80ef92d0-11787002.pdf?src-supplier=RSComponents; ComponentLink2Description: https://datasheet.ciiva.com/11787/0900766b80ef92d0-11787002.pdf?src-supplier=RSComponents; ComponentLink3URL: https://datasheet.ciiva.com/140/s0717e-140483.pdf?src-supplier=Digi-Key; ComponentLink3Description: https://datasheet.ciiva.com/140/s0717e-140483.pdf?src-supplier=Digi-Key; ComponentLink4URL: https://datasheet.ciiva.com/140/s0717e-140484.pdf?src-supplier=Digi-Key; ComponentLink4Description: https://datasheet.ciiva.com/140/s0717e-140484.pdf?src-supplier=Digi-Key; Supplier Part Number 1: 490-5332-1-ND
footprint C0805
pins: 1, 2

## ICL3221EIVZ-T
designator U?
RS-232 TRANSCEIVER 16-Pin TSSOP; Manufacturer: Renesas; Supplier 1: Digi-Key; Manufacturer Part Number: ICL3221EIVZ-T; RoHS: Yes; Category: RS-232 / RS-422 / RS-485 Interface ICs; Stock 1: 4298; Pricing 1: 1=1,56000, 10=1,40400, 25=1,32480, 100=1,12890, 250=1,06000, 500=0,92750, 1000=0,83500 (USD); RoHS Compliant: Yes; ComponentLink1URL: https://4donline.ihs.com/images/VipMasterIC/IC/RNCC/RNCC-S-A0008369024/RNCC-S-A0008369024-1.pdf?hkey=6D3A4C79FDBF58556ACFDE234799DDF0&src-supplier=Farnell; ComponentLink1Description: https://4donline.ihs.com/images/VipMasterIC/IC/RNCC/RNCC-S-A0008369024/RNCC-S-A0008369024-1.pdf?hkey=6D3A4C79FDBF58556ACFDE234799DDF0&src-supplier=Farnell; ComponentLink2URL: https://4donline.ihs.com/images/VipMasterIC/IC/RNCC/RNCC-S-A0008369024/RNCC-S-A0008369024-1.pdf?hkey=6D3A4C79FDBF58556ACFDE234799DDF0&src-supplier=Newark; ComponentLink2Description: https://4donline.ihs.com/images/VipMasterIC/IC/RNCC/RNCC-S-A0008369024/RNCC-S-A0008369024-1.pdf?hkey=6D3A4C79FDBF58556ACFDE234799DDF0&src-supplier=Newark; Supplier Part Number 1: ICL3221EIVZ-TCT-ND
footprint ICL3221E
pins: 1 ~{EN}, 2 C1+, 3 V+, 4 C1-, 5 C2+, 6 C2-, 7 V-, 8 R1_IN, 9 R1_OUT, 10 ~{INVALID}, 11 T1_IN, 12 FORCEON, 13 T1_OUT, 14 GND, 15 VCC, 16 ~{FORCEOFF}

## Inductor
designator *
pins: 1, 2

## info_project
designator GPH?  (value not drawn)  (graphical)
GRAPHICAL - Info Project
text: Title:; Variants:; Page Contents:; Revision:; Designed by:; Checked by:; Release Date:; Sheet:; of

## LM1117IMP-3.3/NOPB
designator U?
IC REG LDO 3.3V 800mA SOT223; Manufacturer: Texas Instruments; Number of Outputs: 1; Max Input Voltage: 15V; Polarity: Positive; Quiescent Current: 15mA; Accuracy: 1%; Output Type: Fixed; Dropout Voltage: 1.2V; Min Input Voltage: 2.6V; Max Supply Voltage: 10V; Min Supply Voltage: 4.75V; Current Rating: 800A; Supplier 1: Mouser; Manufacturer Part Number: LM1117IMP-3.3/NOPB; RoHS: Yes; Category: Voltage Regulators - Linear; Stock 1: 5; Pricing 1: 1=1,28000, 10=1,15000, 50=1,09000, 100=0,89500, 1000=0,58300, 10000=0,58300 (USD); Mount: Surface Mount; Case/Package: SOT-223; Number of Pins: 4; Min Operating Temperature: -40°C; Max Operating Temperature: 125°C; Output Voltage: 3.3V; Max Output Current: 800mA; Packaging: Tape and Reel; Output Current: 800mA; Nominal Output Voltage: 3.3V; Termination: SMD/SMT; Output Voltage Accuracy: 1%; Number of Regulators: 1; Min Current Limit: 800mA; Package Quantity: 1000; Length: 6.5mm; Width: 3.56mm; Height: 1.6mm; Radiation Hardening: No; REACH SVHC: No SVHC; Lead Free: Lead Free; RoHS Compliant: Yes; ComponentLink1URL: https://datasheet.ciiva.com/27051/1281318-27051810.pdf?src-supplier=Jameco; ComponentLink1Description: https://datasheet.ciiva.com/27051/1281318-27051810.pdf?src-supplier=Jameco; ComponentLink2URL: https://datasheet.ciiva.com/8042/1670636-8042261.pdf?src-supplier=Element14; ComponentLink2Description: https://datasheet.ciiva.com/8042/1670636-8042261.pdf?src-supplier=Element14; ComponentLink3URL: https://datasheet.ciiva.com/1570/1849796-1570171.pdf?src-supplier=Farnell; ComponentLink3Description: https://datasheet.ciiva.com/1570/1849796-1570171.pdf?src-supplier=Farnell; ComponentLink4URL: https://datasheet.ciiva.com/14149/lm1117-eng-tds-14149980.pdf?src-supplier=Distrelec; ComponentLink4Description: https://datasheet.ciiva.com/14149/lm1117-eng-tds-14149980.pdf?src-supplier=Distrelec; ComponentLink5URL: https://datasheet.ciiva.com/46386/1882372-46386042.pdf?src-supplier=Element14; ComponentLink5Description: https://datasheet.ciiva.com/46386/1882372-46386042.pdf?src-supplier=Element14; ComponentLink6URL: https://datasheet.ciiva.com/3223/lm1117-n-3223515.pdf?src-supplier=Avnet; ComponentLink6Description: https://datasheet.ciiva.com/3223/lm1117-n-3223515.pdf?src-supplier=Avnet; ComponentLink7URL: https://datasheet.ciiva.com/6580/lm1117-n-6580030.pdf?src-supplier=Digi-Key; ComponentLink7Description: https://datasheet.ciiva.com/6580/lm1117-n-6580030.pdf?src-supplier=Digi-Key; ComponentLink8URL: https://datasheet.ciiva.com/6580/lm1117-n-6580026.pdf?src-supplier=Digi-Key; ComponentLink8Description: https://datasheet.ciiva.com/6580/lm1117-n-6580026.pdf?src-supplier=Digi-Key; Supplier Part Number 1: 926-LM1117IMP3.3NOPB
footprint LM1117
pins: 1 V_IN, 2 V_OUT, 3 GND

## LMF212B7105KGHT
designator C?, comment 1uF / 10V
MLCC - 1uF 10V 0805   X7R +/- 10%; Manufacturer: Taiyo Yuden; Manufacturer Part Number: LMF212B7105KGHT; Supplier 1: Digi-Key; RoHS: Yes; Stock 1: 5962; Pricing 1: 1=0.31000, 10=0.21100, 50=0.14040, 100=0.11930, 500=0.08422, 1000=0.07369 (USD); RoHS Compliant: Yes; Supplier Part Number 1: 587-6522-1-ND
footprint C0805
pins: 1, 2

## M20-9980245
designator J?, comment HDR MALE 2x2
HDR MALE 2x2 100mil; Manufacturer: Harwin; Manufacturer Part Number: M20-9980245; Number of Contacts: 4; Max Current Rating: 3A; Contact Resistance: 25mR; Connector Type: Male Pin; Pitch: 2.54mm; Row Spacing: 0.1inch; Supplier 1: Digi-Key; RoHS: Yes; Category: Headers and Wire Housings; Stock 1: 13611; Pricing 1: 1=0,25000, 10=0,23500, 100=0,16280, 500=0,13776, 1000=0,11272, 5000=0,10019, 10000=0,09080 (USD); Mount: Through Hole; Contact Plating: Gold; Contact Material: Brass; Color: Black; Weight: 0.008395oz; Housing Color: Black; Housing Material: Nylon; Min Operating Temperature: -40°C; Max Operating Temperature: 105°C; Number of Rows: 2; Termination: Solder; Packaging: Bulk; Number of Positions: 4; Orientation: Straight; Gender: Male; Series: M20; Contact Type: Male Pin; Length: 5.08mm; Contact Mating Length: 0.24inch; Depth: 5.08mm; Radiation Hardening: No; RoHS Compliant: Yes; ComponentLink1URL: https://datasheet.ciiva.com/6814/m20-998-6814779.pdf?src-supplier=Digi-Key; ComponentLink1Description: https://datasheet.ciiva.com/6814/m20-998-6814779.pdf?src-supplier=Digi-Key; ComponentLink2URL: https://datasheet.ciiva.com/26899/getdatasheetpartid-721707-26899431.pdf?src-supplier=Verical; ComponentLink2Description: https://datasheet.ciiva.com/26899/getdatasheetpartid-721707-26899431.pdf?src-supplier=Verical; Supplier Part Number 1: 952-2119-ND
footprint HDR MALE 2x2
pins: 1, 2, 3, 4

## MH_7.4MMC_3.2MMD
designator MH?  (value not drawn)  (no BOM)
Mounting Hole 7.4mm Diameter 3.2mm Drill
footprint MH_7.4MMC_3.2MMD
pins: 1

## MLCC
designator *
pins: 1, 2